# Altium footprint library TerminalBlock_Phoenix.PcbLib: 114 footprints (part 5 of 8)
Each footprint in its own frame and in the unit in brackets; x right, y up, seen from the top. Pads: shape width x height; smd on the part's side, far side on the other; paste and mask are expansions set on the pad; w line width, h text height; cw(c..) or ccw(c..) is an arc to the next point about the centre after c.
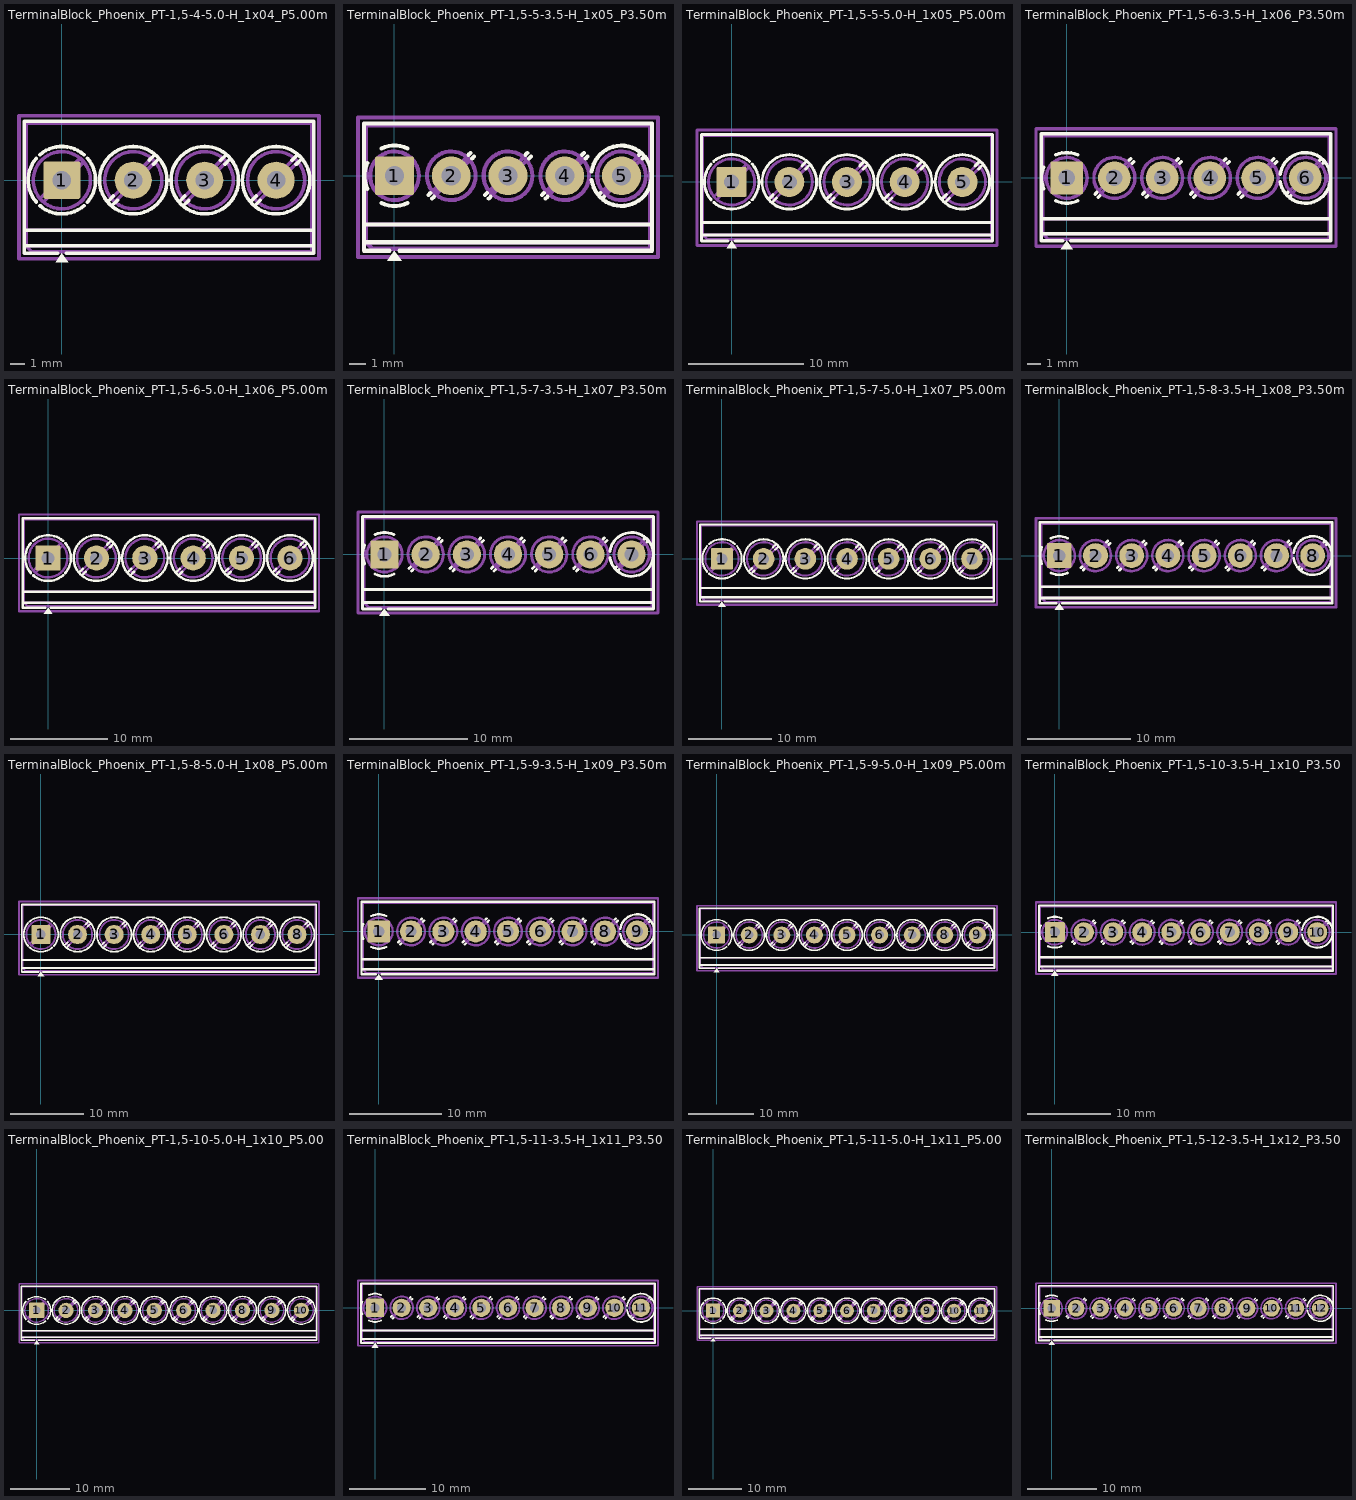
[diagram p4: the footprints below, top view; thin cyan lines are the x and y axes]

## TerminalBlock_Phoenix_PT-1,5-4-5.0-H_1x04_P5.00mm_Horizontal [mm]
pads (4):
  rrect10% 2.6x2.6 hole 1.3: 1(0,0)
  round 2.6 hole 1.3: 2(5,0) 3(10,0) 4(15,0)
F.SilkS:
  circle w0.254: c5,0 r2.36
  circle w0.254: c10,0 r2.36
  circle w0.254: c15,0 r2.36
  region: 0.44,-5.73 -0.44,-5.73 0,-5.12
  lines w0.254: -2.62,-4.6 17.62,-4.6 ; -2.62,-3.5 17.62,-3.5 ; -1.79,-1.502 -1.78,-1.491 ; -1.78,-1.55 cw(c0,0) -1.78,1.55 ; -1.55,-1.78 ccw(c0,0) 1.55,-1.78 ; -1.55,1.78 cw(c0,0) 1.55,1.78 ; -1.502,-1.79 -1.493,-1.78 ; -0.3,-5.12 -2.62,-5.12 -2.62,4.12 17.62,4.12 17.62,-5.12 0.3,-5.12 ; 1.78,-1.55 ccw(c0,0) 1.78,1.55 ; 3.21,-1.502 3.605,-1.106 ; 3.498,-1.79 3.893,-1.394 ; 6.106,1.394 6.502,1.79 ; 6.394,1.106 6.79,1.502 ; 8.21,-1.502 8.605,-1.106 ; 8.498,-1.79 8.893,-1.394 ; 11.106,1.394 11.502,1.79 ; 11.394,1.106 11.79,1.502 ; 13.21,-1.502 13.605,-1.106 ; 13.498,-1.79 13.893,-1.394 ; 16.106,1.394 16.502,1.79 ; 16.394,1.106 16.79,1.502
F.CrtYd:
  lines w0.254: -3,-5.5 -3,4.5 18,4.5 18,-5.5 -3,-5.5
F.Fab:
  circle w0.254: c0,0 r2
  circle w0.254: c5,0 r2
  circle w0.254: c10,0 r2
  circle w0.254: c15,0 r2
  lines w0.254: -2.5,-3.5 17.5,-3.5 ; -1.517,-1.272 1.273,1.517 ; -1.273,-1.517 1.517,1.273 ; 3.483,-1.272 6.273,1.517 ; 3.727,-1.517 6.517,1.273 ; 8.483,-1.272 11.273,1.517 ; 8.727,-1.517 11.517,1.273 ; 13.483,-1.272 16.273,1.517 ; 13.727,-1.517 16.517,1.273 ; 17.5,-4.6 -2.5,-4.6 ; -2.5,-4.6 -2.5,4 17.5,4 17.5,-5 -2.1,-5 -2.5,-4.6
  text "'.Designator'" at 6.061,-3.298 h1

## TerminalBlock_Phoenix_PT-1,5-5-3.5-H_1x05_P3.50mm_Horizontal [mm]
pads (5):
  rrect10% 2.4x2.4 hole 1.2: 1(0,0)
  round 2.4 hole 1.2: 2(3.5,0) 3(7,0) 4(10.5,0) 5(14,0)
F.SilkS:
  region: 0.44,-5.23 -0.44,-5.23 0,-4.62
  lines w0.254: -1.87,-4.1 15.87,-4.1 ; -1.87,-3 15.87,-3 ; -1.68,-0.798 cw(c0,0) -1.68,0.798 ; -0.798,-1.68 ccw(c0,0) 0.798,-1.68 ; -0.798,1.68 cw(c0,0) 0.798,1.68 ; -0.3,-4.62 -1.87,-4.62 -1.87,3.22 15.87,3.22 15.87,-4.62 0.3,-4.62 ; 2.089,-1.183 2.204,-1.069 ; 2.316,-1.41 2.431,-1.296 ; 4.569,1.296 4.684,1.411 ; 4.796,1.069 4.911,1.184 ; 5.589,-1.183 5.704,-1.069 ; 5.816,-1.41 5.931,-1.296 ; 8.069,1.296 8.184,1.411 ; 8.296,1.069 8.411,1.184 ; 9.089,-1.183 9.204,-1.069 ; 9.316,-1.41 9.431,-1.296 ; 11.569,1.296 11.684,1.411 ; 11.796,1.069 11.911,1.184 ; 12.159,-0.265 ccw(c14,0) 12.159,0.265 ; 12.589,-1.183 12.704,-1.069 ; 12.816,-1.41 12.931,-1.296 ; 15.069,1.296 15.184,1.411 ; 15.296,1.069 15.411,1.184
F.CrtYd:
  lines w0.254: -2.25,-5 -2.25,3.6 16.25,3.6 16.25,-5 -2.25,-5
F.Fab:
  circle w0.254: c0,0 r1.5
  circle w0.254: c3.5,0 r1.5
  circle w0.254: c7,0 r1.5
  circle w0.254: c10.5,0 r1.5
  circle w0.254: c14,0 r1.5
  lines w0.254: -1.75,-3 15.75,-3 ; -1.138,-0.954 0.955,1.138 ; -0.955,-1.137 1.138,0.954 ; 2.362,-0.954 4.455,1.138 ; 2.545,-1.137 4.638,0.954 ; 5.862,-0.954 7.955,1.138 ; 6.045,-1.137 8.138,0.954 ; 9.362,-0.954 11.455,1.138 ; 9.545,-1.137 11.638,0.954 ; 12.862,-0.954 14.955,1.138 ; 13.045,-1.137 15.138,0.954 ; 15.75,-4.1 -1.75,-4.1 ; -1.75,-4.1 -1.75,3.1 15.75,3.1 15.75,-4.5 -1.35,-4.5 -1.75,-4.1
  text "'.Designator'" at 5.561,-2.798 h1

## TerminalBlock_Phoenix_PT-1,5-5-5.0-H_1x05_P5.00mm_Horizontal [mm]
pads (5):
  rrect10% 2.6x2.6 hole 1.3: 1(0,0)
  round 2.6 hole 1.3: 2(5,0) 3(10,0) 4(15,0) 5(20,0)
F.SilkS:
  circle w0.254: c5,0 r2.36
  circle w0.254: c10,0 r2.36
  circle w0.254: c15,0 r2.36
  circle w0.254: c20,0 r2.36
  region: 0.44,-5.73 -0.44,-5.73 0,-5.12
  lines w0.254: -2.62,-4.6 22.62,-4.6 ; -2.62,-3.5 22.62,-3.5 ; -1.79,-1.502 -1.78,-1.491 ; -1.78,-1.55 cw(c0,0) -1.78,1.55 ; -1.55,-1.78 ccw(c0,0) 1.55,-1.78 ; -1.55,1.78 cw(c0,0) 1.55,1.78 ; -1.502,-1.79 -1.493,-1.78 ; -0.3,-5.12 -2.62,-5.12 -2.62,4.12 22.62,4.12 22.62,-5.12 0.3,-5.12 ; 1.78,-1.55 ccw(c0,0) 1.78,1.55 ; 3.21,-1.502 3.605,-1.106 ; 3.498,-1.79 3.893,-1.394 ; 6.106,1.394 6.502,1.79 ; 6.394,1.106 6.79,1.502 ; 8.21,-1.502 8.605,-1.106 ; 8.498,-1.79 8.893,-1.394 ; 11.106,1.394 11.502,1.79 ; 11.394,1.106 11.79,1.502 ; 13.21,-1.502 13.605,-1.106 ; 13.498,-1.79 13.893,-1.394 ; 16.106,1.394 16.502,1.79 ; 16.394,1.106 16.79,1.502 ; 18.21,-1.502 18.605,-1.106 ; 18.498,-1.79 18.893,-1.394 ; 21.106,1.394 21.502,1.79 ; 21.394,1.106 21.79,1.502
F.CrtYd:
  lines w0.254: -3,-5.5 -3,4.5 23,4.5 23,-5.5 -3,-5.5
F.Fab:
  circle w0.254: c0,0 r2
  circle w0.254: c5,0 r2
  circle w0.254: c10,0 r2
  circle w0.254: c15,0 r2
  circle w0.254: c20,0 r2
  lines w0.254: -2.5,-3.5 22.5,-3.5 ; -1.517,-1.272 1.273,1.517 ; -1.273,-1.517 1.517,1.273 ; 3.483,-1.272 6.273,1.517 ; 3.727,-1.517 6.517,1.273 ; 8.483,-1.272 11.273,1.517 ; 8.727,-1.517 11.517,1.273 ; 13.483,-1.272 16.273,1.517 ; 13.727,-1.517 16.517,1.273 ; 18.483,-1.272 21.273,1.517 ; 18.727,-1.517 21.517,1.273 ; 22.5,-4.6 -2.5,-4.6 ; -2.5,-4.6 -2.5,4 22.5,4 22.5,-5 -2.1,-5 -2.5,-4.6
  text "'.Designator'" at 8.561,-3.298 h1

## TerminalBlock_Phoenix_PT-1,5-6-3.5-H_1x06_P3.50mm_Horizontal [mm]
pads (6):
  rrect10% 2.4x2.4 hole 1.2: 1(0,0)
  round 2.4 hole 1.2: 2(3.5,0) 3(7,0) 4(10.5,0) 5(14,0) 6(17.5,0)
F.SilkS:
  region: 0.44,-5.23 -0.44,-5.23 0,-4.62
  lines w0.254: -1.87,-4.1 19.37,-4.1 ; -1.87,-3 19.37,-3 ; -1.68,-0.798 cw(c0,0) -1.68,0.798 ; -0.798,-1.68 ccw(c0,0) 0.798,-1.68 ; -0.798,1.68 cw(c0,0) 0.798,1.68 ; -0.3,-4.62 -1.87,-4.62 -1.87,3.22 19.37,3.22 19.37,-4.62 0.3,-4.62 ; 2.089,-1.183 2.204,-1.069 ; 2.316,-1.41 2.431,-1.296 ; 4.569,1.296 4.684,1.411 ; 4.796,1.069 4.911,1.184 ; 5.589,-1.183 5.704,-1.069 ; 5.816,-1.41 5.931,-1.296 ; 8.069,1.296 8.184,1.411 ; 8.296,1.069 8.411,1.184 ; 9.089,-1.183 9.204,-1.069 ; 9.316,-1.41 9.431,-1.296 ; 11.569,1.296 11.684,1.411 ; 11.796,1.069 11.911,1.184 ; 12.589,-1.183 12.704,-1.069 ; 12.816,-1.41 12.931,-1.296 ; 15.069,1.296 15.184,1.411 ; 15.296,1.069 15.411,1.184 ; 15.659,-0.265 ccw(c17.5,0) 15.659,0.265 ; 16.089,-1.183 16.204,-1.069 ; 16.316,-1.41 16.431,-1.296 ; 18.569,1.296 18.684,1.411 ; 18.796,1.069 18.911,1.184
F.CrtYd:
  lines w0.254: -2.25,-5 -2.25,3.6 19.75,3.6 19.75,-5 -2.25,-5
F.Fab:
  circle w0.254: c0,0 r1.5
  circle w0.254: c3.5,0 r1.5
  circle w0.254: c7,0 r1.5
  circle w0.254: c10.5,0 r1.5
  circle w0.254: c14,0 r1.5
  circle w0.254: c17.5,0 r1.5
  lines w0.254: -1.75,-3 19.25,-3 ; -1.138,-0.954 0.955,1.138 ; -0.955,-1.137 1.138,0.954 ; 2.362,-0.954 4.455,1.138 ; 2.545,-1.137 4.638,0.954 ; 5.862,-0.954 7.955,1.138 ; 6.045,-1.137 8.138,0.954 ; 9.362,-0.954 11.455,1.138 ; 9.545,-1.137 11.638,0.954 ; 12.862,-0.954 14.955,1.138 ; 13.045,-1.137 15.138,0.954 ; 16.362,-0.954 18.455,1.138 ; 16.545,-1.137 18.638,0.954 ; 19.25,-4.1 -1.75,-4.1 ; -1.75,-4.1 -1.75,3.1 19.25,3.1 19.25,-4.5 -1.35,-4.5 -1.75,-4.1
  text "'.Designator'" at 7.311,-2.798 h1

## TerminalBlock_Phoenix_PT-1,5-6-5.0-H_1x06_P5.00mm_Horizontal [mm]
pads (6):
  rrect10% 2.6x2.6 hole 1.3: 1(0,0)
  round 2.6 hole 1.3: 2(5,0) 3(10,0) 4(15,0) 5(20,0) 6(25,0)
F.SilkS:
  circle w0.254: c5,0 r2.36
  circle w0.254: c10,0 r2.36
  circle w0.254: c15,0 r2.36
  circle w0.254: c20,0 r2.36
  circle w0.254: c25,0 r2.36
  region: 0.44,-5.73 -0.44,-5.73 0,-5.12
  lines w0.254: -2.62,-4.6 27.62,-4.6 ; -2.62,-3.5 27.62,-3.5 ; -1.79,-1.502 -1.78,-1.491 ; -1.78,-1.55 cw(c0,0) -1.78,1.55 ; -1.55,-1.78 ccw(c0,0) 1.55,-1.78 ; -1.55,1.78 cw(c0,0) 1.55,1.78 ; -1.502,-1.79 -1.493,-1.78 ; -0.3,-5.12 -2.62,-5.12 -2.62,4.12 27.62,4.12 27.62,-5.12 0.3,-5.12 ; 1.78,-1.55 ccw(c0,0) 1.78,1.55 ; 3.21,-1.502 3.605,-1.106 ; 3.498,-1.79 3.893,-1.394 ; 6.106,1.394 6.502,1.79 ; 6.394,1.106 6.79,1.502 ; 8.21,-1.502 8.605,-1.106 ; 8.498,-1.79 8.893,-1.394 ; 11.106,1.394 11.502,1.79 ; 11.394,1.106 11.79,1.502 ; 13.21,-1.502 13.605,-1.106 ; 13.498,-1.79 13.893,-1.394 ; 16.106,1.394 16.502,1.79 ; 16.394,1.106 16.79,1.502 ; 18.21,-1.502 18.605,-1.106 ; 18.498,-1.79 18.893,-1.394 ; 21.106,1.394 21.502,1.79 ; 21.394,1.106 21.79,1.502 ; 23.21,-1.502 23.605,-1.106 ; 23.498,-1.79 23.893,-1.394 ; 26.106,1.394 26.502,1.79 ; 26.394,1.106 26.79,1.502
F.CrtYd:
  lines w0.254: -3,-5.5 -3,4.5 28,4.5 28,-5.5 -3,-5.5
F.Fab:
  circle w0.254: c0,0 r2
  circle w0.254: c5,0 r2
  circle w0.254: c10,0 r2
  circle w0.254: c15,0 r2
  circle w0.254: c20,0 r2
  circle w0.254: c25,0 r2
  lines w0.254: -2.5,-3.5 27.5,-3.5 ; -1.517,-1.272 1.273,1.517 ; -1.273,-1.517 1.517,1.273 ; 3.483,-1.272 6.273,1.517 ; 3.727,-1.517 6.517,1.273 ; 8.483,-1.272 11.273,1.517 ; 8.727,-1.517 11.517,1.273 ; 13.483,-1.272 16.273,1.517 ; 13.727,-1.517 16.517,1.273 ; 18.483,-1.272 21.273,1.517 ; 18.727,-1.517 21.517,1.273 ; 23.483,-1.272 26.273,1.517 ; 23.727,-1.517 26.517,1.273 ; 27.5,-4.6 -2.5,-4.6 ; -2.5,-4.6 -2.5,4 27.5,4 27.5,-5 -2.1,-5 -2.5,-4.6
  text "'.Designator'" at 11.061,-3.298 h1

## TerminalBlock_Phoenix_PT-1,5-7-3.5-H_1x07_P3.50mm_Horizontal [mm]
pads (7):
  rrect10% 2.4x2.4 hole 1.2: 1(0,0)
  round 2.4 hole 1.2: 2(3.5,0) 3(7,0) 4(10.5,0) 5(14,0) 6(17.5,0) 7(21,0)
F.SilkS:
  region: 0.44,-5.23 -0.44,-5.23 0,-4.62
  lines w0.254: -1.87,-4.1 22.87,-4.1 ; -1.87,-3 22.87,-3 ; -1.68,-0.798 cw(c0,0) -1.68,0.798 ; -0.798,-1.68 ccw(c0,0) 0.798,-1.68 ; -0.798,1.68 cw(c0,0) 0.798,1.68 ; -0.3,-4.62 -1.87,-4.62 -1.87,3.22 22.87,3.22 22.87,-4.62 0.3,-4.62 ; 2.089,-1.183 2.204,-1.069 ; 2.316,-1.41 2.431,-1.296 ; 4.569,1.296 4.684,1.411 ; 4.796,1.069 4.911,1.184 ; 5.589,-1.183 5.704,-1.069 ; 5.816,-1.41 5.931,-1.296 ; 8.069,1.296 8.184,1.411 ; 8.296,1.069 8.411,1.184 ; 9.089,-1.183 9.204,-1.069 ; 9.316,-1.41 9.431,-1.296 ; 11.569,1.296 11.684,1.411 ; 11.796,1.069 11.911,1.184 ; 12.589,-1.183 12.704,-1.069 ; 12.816,-1.41 12.931,-1.296 ; 15.069,1.296 15.184,1.411 ; 15.296,1.069 15.411,1.184 ; 16.089,-1.183 16.204,-1.069 ; 16.316,-1.41 16.431,-1.296 ; 18.569,1.296 18.684,1.411 ; 18.796,1.069 18.911,1.184 ; 19.159,-0.265 ccw(c21,0) 19.159,0.265 ; 19.589,-1.183 19.704,-1.069 ; 19.816,-1.41 19.931,-1.296 ; 22.069,1.296 22.184,1.411 ; 22.296,1.069 22.411,1.184
F.CrtYd:
  lines w0.254: -2.25,-5 -2.25,3.6 23.25,3.6 23.25,-5 -2.25,-5
F.Fab:
  circle w0.254: c0,0 r1.5
  circle w0.254: c3.5,0 r1.5
  circle w0.254: c7,0 r1.5
  circle w0.254: c10.5,0 r1.5
  circle w0.254: c14,0 r1.5
  circle w0.254: c17.5,0 r1.5
  circle w0.254: c21,0 r1.5
  lines w0.254: -1.75,-3 22.75,-3 ; -1.138,-0.954 0.955,1.138 ; -0.955,-1.137 1.138,0.954 ; 2.362,-0.954 4.455,1.138 ; 2.545,-1.137 4.638,0.954 ; 5.862,-0.954 7.955,1.138 ; 6.045,-1.137 8.138,0.954 ; 9.362,-0.954 11.455,1.138 ; 9.545,-1.137 11.638,0.954 ; 12.862,-0.954 14.955,1.138 ; 13.045,-1.137 15.138,0.954 ; 16.362,-0.954 18.455,1.138 ; 16.545,-1.137 18.638,0.954 ; 19.862,-0.954 21.955,1.138 ; 20.045,-1.137 22.138,0.954 ; 22.75,-4.1 -1.75,-4.1 ; -1.75,-4.1 -1.75,3.1 22.75,3.1 22.75,-4.5 -1.35,-4.5 -1.75,-4.1
  text "'.Designator'" at 9.061,-2.798 h1

## TerminalBlock_Phoenix_PT-1,5-7-5.0-H_1x07_P5.00mm_Horizontal [mm]
pads (7):
  rrect10% 2.6x2.6 hole 1.3: 1(0,0)
  round 2.6 hole 1.3: 2(5,0) 3(10,0) 4(15,0) 5(20,0) 6(25,0) 7(30,0)
F.SilkS:
  circle w0.254: c5,0 r2.36
  circle w0.254: c10,0 r2.36
  circle w0.254: c15,0 r2.36
  circle w0.254: c20,0 r2.36
  circle w0.254: c25,0 r2.36
  circle w0.254: c30,0 r2.36
  region: 0.44,-5.73 -0.44,-5.73 0,-5.12
  lines w0.254: -2.62,-4.6 32.62,-4.6 ; -2.62,-3.5 32.62,-3.5 ; -1.79,-1.502 -1.78,-1.491 ; -1.78,-1.55 cw(c0,0) -1.78,1.55 ; -1.55,-1.78 ccw(c0,0) 1.55,-1.78 ; -1.55,1.78 cw(c0,0) 1.55,1.78 ; -1.502,-1.79 -1.493,-1.78 ; -0.3,-5.12 -2.62,-5.12 -2.62,4.12 32.62,4.12 32.62,-5.12 0.3,-5.12 ; 1.78,-1.55 ccw(c0,0) 1.78,1.55 ; 3.21,-1.502 3.605,-1.106 ; 3.498,-1.79 3.893,-1.394 ; 6.106,1.394 6.502,1.79 ; 6.394,1.106 6.79,1.502 ; 8.21,-1.502 8.605,-1.106 ; 8.498,-1.79 8.893,-1.394 ; 11.106,1.394 11.502,1.79 ; 11.394,1.106 11.79,1.502 ; 13.21,-1.502 13.605,-1.106 ; 13.498,-1.79 13.893,-1.394 ; 16.106,1.394 16.502,1.79 ; 16.394,1.106 16.79,1.502 ; 18.21,-1.502 18.605,-1.106 ; 18.498,-1.79 18.893,-1.394 ; 21.106,1.394 21.502,1.79 ; 21.394,1.106 21.79,1.502 ; 23.21,-1.502 23.605,-1.106 ; 23.498,-1.79 23.893,-1.394 ; 26.106,1.394 26.502,1.79 ; 26.394,1.106 26.79,1.502 ; 28.21,-1.502 28.605,-1.106 ; 28.498,-1.79 28.893,-1.394 ; 31.106,1.394 31.502,1.79 ; 31.394,1.106 31.79,1.502
F.CrtYd:
  lines w0.254: -3,-5.5 -3,4.5 33,4.5 33,-5.5 -3,-5.5
F.Fab:
  circle w0.254: c0,0 r2
  circle w0.254: c5,0 r2
  circle w0.254: c10,0 r2
  circle w0.254: c15,0 r2
  circle w0.254: c20,0 r2
  circle w0.254: c25,0 r2
  circle w0.254: c30,0 r2
  lines w0.254: -2.5,-3.5 32.5,-3.5 ; -1.517,-1.272 1.273,1.517 ; -1.273,-1.517 1.517,1.273 ; 3.483,-1.272 6.273,1.517 ; 3.727,-1.517 6.517,1.273 ; 8.483,-1.272 11.273,1.517 ; 8.727,-1.517 11.517,1.273 ; 13.483,-1.272 16.273,1.517 ; 13.727,-1.517 16.517,1.273 ; 18.483,-1.272 21.273,1.517 ; 18.727,-1.517 21.517,1.273 ; 23.483,-1.272 26.273,1.517 ; 23.727,-1.517 26.517,1.273 ; 28.483,-1.272 31.273,1.517 ; 28.727,-1.517 31.517,1.273 ; 32.5,-4.6 -2.5,-4.6 ; -2.5,-4.6 -2.5,4 32.5,4 32.5,-5 -2.1,-5 -2.5,-4.6
  text "'.Designator'" at 13.561,-3.298 h1

## TerminalBlock_Phoenix_PT-1,5-8-3.5-H_1x08_P3.50mm_Horizontal [mm]
pads (8):
  rrect10% 2.4x2.4 hole 1.2: 1(0,0)
  round 2.4 hole 1.2: 2(3.5,0) 3(7,0) 4(10.5,0) 5(14,0) 6(17.5,0) 7(21,0) 8(24.5,0)
F.SilkS:
  region: 0.44,-5.23 -0.44,-5.23 0,-4.62
  lines w0.254: -1.87,-4.1 26.37,-4.1 ; -1.87,-3 26.37,-3 ; -1.68,-0.798 cw(c0,0) -1.68,0.798 ; -0.798,-1.68 ccw(c0,0) 0.798,-1.68 ; -0.798,1.68 cw(c0,0) 0.798,1.68 ; -0.3,-4.62 -1.87,-4.62 -1.87,3.22 26.37,3.22 26.37,-4.62 0.3,-4.62 ; 2.089,-1.183 2.204,-1.069 ; 2.316,-1.41 2.431,-1.296 ; 4.569,1.296 4.684,1.411 ; 4.796,1.069 4.911,1.184 ; 5.589,-1.183 5.704,-1.069 ; 5.816,-1.41 5.931,-1.296 ; 8.069,1.296 8.184,1.411 ; 8.296,1.069 8.411,1.184 ; 9.089,-1.183 9.204,-1.069 ; 9.316,-1.41 9.431,-1.296 ; 11.569,1.296 11.684,1.411 ; 11.796,1.069 11.911,1.184 ; 12.589,-1.183 12.704,-1.069 ; 12.816,-1.41 12.931,-1.296 ; 15.069,1.296 15.184,1.411 ; 15.296,1.069 15.411,1.184 ; 16.089,-1.183 16.204,-1.069 ; 16.316,-1.41 16.431,-1.296 ; 18.569,1.296 18.684,1.411 ; 18.796,1.069 18.911,1.184 ; 19.589,-1.183 19.704,-1.069 ; 19.816,-1.41 19.931,-1.296 ; 22.069,1.296 22.184,1.411 ; 22.296,1.069 22.411,1.184 ; 22.659,-0.265 ccw(c24.5,0) 22.659,0.265 ; 23.089,-1.183 23.204,-1.069 ; 23.316,-1.41 23.431,-1.296 ; 25.569,1.296 25.684,1.411 ; 25.796,1.069 25.911,1.184
F.CrtYd:
  lines w0.254: -2.25,-5 -2.25,3.6 26.75,3.6 26.75,-5 -2.25,-5
F.Fab:
  circle w0.254: c0,0 r1.5
  circle w0.254: c3.5,0 r1.5
  circle w0.254: c7,0 r1.5
  circle w0.254: c10.5,0 r1.5
  circle w0.254: c14,0 r1.5
  circle w0.254: c17.5,0 r1.5
  circle w0.254: c21,0 r1.5
  circle w0.254: c24.5,0 r1.5
  lines w0.254: -1.75,-3 26.25,-3 ; -1.138,-0.954 0.955,1.138 ; -0.955,-1.137 1.138,0.954 ; 2.362,-0.954 4.455,1.138 ; 2.545,-1.137 4.638,0.954 ; 5.862,-0.954 7.955,1.138 ; 6.045,-1.137 8.138,0.954 ; 9.362,-0.954 11.455,1.138 ; 9.545,-1.137 11.638,0.954 ; 12.862,-0.954 14.955,1.138 ; 13.045,-1.137 15.138,0.954 ; 16.362,-0.954 18.455,1.138 ; 16.545,-1.137 18.638,0.954 ; 19.862,-0.954 21.955,1.138 ; 20.045,-1.137 22.138,0.954 ; 23.362,-0.954 25.455,1.138 ; 23.545,-1.137 25.638,0.954 ; 26.25,-4.1 -1.75,-4.1 ; -1.75,-4.1 -1.75,3.1 26.25,3.1 26.25,-4.5 -1.35,-4.5 -1.75,-4.1
  text "'.Designator'" at 10.811,-2.798 h1

## TerminalBlock_Phoenix_PT-1,5-8-5.0-H_1x08_P5.00mm_Horizontal [mm]
pads (8):
  rrect10% 2.6x2.6 hole 1.3: 1(0,0)
  round 2.6 hole 1.3: 2(5,0) 3(10,0) 4(15,0) 5(20,0) 6(25,0) 7(30,0) 8(35,0)
F.SilkS:
  circle w0.254: c5,0 r2.36
  circle w0.254: c10,0 r2.36
  circle w0.254: c15,0 r2.36
  circle w0.254: c20,0 r2.36
  circle w0.254: c25,0 r2.36
  circle w0.254: c30,0 r2.36
  circle w0.254: c35,0 r2.36
  region: 0.44,-5.73 -0.44,-5.73 0,-5.12
  lines w0.254: -2.62,-4.6 37.62,-4.6 ; -2.62,-3.5 37.62,-3.5 ; -1.79,-1.502 -1.78,-1.491 ; -1.78,-1.55 cw(c0,0) -1.78,1.55 ; -1.55,-1.78 ccw(c0,0) 1.55,-1.78 ; -1.55,1.78 cw(c0,0) 1.55,1.78 ; -1.502,-1.79 -1.493,-1.78 ; -0.3,-5.12 -2.62,-5.12 -2.62,4.12 37.62,4.12 37.62,-5.12 0.3,-5.12 ; 1.78,-1.55 ccw(c0,0) 1.78,1.55 ; 3.21,-1.502 3.605,-1.106 ; 3.498,-1.79 3.893,-1.394 ; 6.106,1.394 6.502,1.79 ; 6.394,1.106 6.79,1.502 ; 8.21,-1.502 8.605,-1.106 ; 8.498,-1.79 8.893,-1.394 ; 11.106,1.394 11.502,1.79 ; 11.394,1.106 11.79,1.502 ; 13.21,-1.502 13.605,-1.106 ; 13.498,-1.79 13.893,-1.394 ; 16.106,1.394 16.502,1.79 ; 16.394,1.106 16.79,1.502 ; 18.21,-1.502 18.605,-1.106 ; 18.498,-1.79 18.893,-1.394 ; 21.106,1.394 21.502,1.79 ; 21.394,1.106 21.79,1.502 ; 23.21,-1.502 23.605,-1.106 ; 23.498,-1.79 23.893,-1.394 ; 26.106,1.394 26.502,1.79 ; 26.394,1.106 26.79,1.502 ; 28.21,-1.502 28.605,-1.106 ; 28.498,-1.79 28.893,-1.394 ; 31.106,1.394 31.502,1.79 ; 31.394,1.106 31.79,1.502 ; 33.21,-1.502 33.605,-1.106 ; 33.498,-1.79 33.893,-1.394 ; 36.106,1.394 36.502,1.79 ; 36.394,1.106 36.79,1.502
F.CrtYd:
  lines w0.254: -3,-5.5 -3,4.5 38,4.5 38,-5.5 -3,-5.5
F.Fab:
  circle w0.254: c0,0 r2
  circle w0.254: c5,0 r2
  circle w0.254: c10,0 r2
  circle w0.254: c15,0 r2
  circle w0.254: c20,0 r2
  circle w0.254: c25,0 r2
  circle w0.254: c30,0 r2
  circle w0.254: c35,0 r2
  lines w0.254: -2.5,-3.5 37.5,-3.5 ; -1.517,-1.272 1.273,1.517 ; -1.273,-1.517 1.517,1.273 ; 3.483,-1.272 6.273,1.517 ; 3.727,-1.517 6.517,1.273 ; 8.483,-1.272 11.273,1.517 ; 8.727,-1.517 11.517,1.273 ; 13.483,-1.272 16.273,1.517 ; 13.727,-1.517 16.517,1.273 ; 18.483,-1.272 21.273,1.517 ; 18.727,-1.517 21.517,1.273 ; 23.483,-1.272 26.273,1.517 ; 23.727,-1.517 26.517,1.273 ; 28.483,-1.272 31.273,1.517 ; 28.727,-1.517 31.517,1.273 ; 33.483,-1.272 36.273,1.517 ; 33.727,-1.517 36.517,1.273 ; 37.5,-4.6 -2.5,-4.6 ; -2.5,-4.6 -2.5,4 37.5,4 37.5,-5 -2.1,-5 -2.5,-4.6
  text "'.Designator'" at 16.061,-3.298 h1

## TerminalBlock_Phoenix_PT-1,5-9-3.5-H_1x09_P3.50mm_Horizontal [mm]
pads (9):
  rrect10% 2.4x2.4 hole 1.2: 1(0,0)
  round 2.4 hole 1.2: 2(3.5,0) 3(7,0) 4(10.5,0) 5(14,0) 6(17.5,0) 7(21,0) 8(24.5,0) 9(28,0)
F.SilkS:
  region: 0.44,-5.23 -0.44,-5.23 0,-4.62
  lines w0.254: -1.87,-4.1 29.87,-4.1 ; -1.87,-3 29.87,-3 ; -1.68,-0.798 cw(c0,0) -1.68,0.798 ; -0.798,-1.68 ccw(c0,0) 0.798,-1.68 ; -0.798,1.68 cw(c0,0) 0.798,1.68 ; -0.3,-4.62 -1.87,-4.62 -1.87,3.22 29.87,3.22 29.87,-4.62 0.3,-4.62 ; 2.089,-1.183 2.204,-1.069 ; 2.316,-1.41 2.431,-1.296 ; 4.569,1.296 4.684,1.411 ; 4.796,1.069 4.911,1.184 ; 5.589,-1.183 5.704,-1.069 ; 5.816,-1.41 5.931,-1.296 ; 8.069,1.296 8.184,1.411 ; 8.296,1.069 8.411,1.184 ; 9.089,-1.183 9.204,-1.069 ; 9.316,-1.41 9.431,-1.296 ; 11.569,1.296 11.684,1.411 ; 11.796,1.069 11.911,1.184 ; 12.589,-1.183 12.704,-1.069 ; 12.816,-1.41 12.931,-1.296 ; 15.069,1.296 15.184,1.411 ; 15.296,1.069 15.411,1.184 ; 16.089,-1.183 16.204,-1.069 ; 16.316,-1.41 16.431,-1.296 ; 18.569,1.296 18.684,1.411 ; 18.796,1.069 18.911,1.184 ; 19.589,-1.183 19.704,-1.069 ; 19.816,-1.41 19.931,-1.296 ; 22.069,1.296 22.184,1.411 ; 22.296,1.069 22.411,1.184 ; 23.089,-1.183 23.204,-1.069 ; 23.316,-1.41 23.431,-1.296 ; 25.569,1.296 25.684,1.411 ; 25.796,1.069 25.911,1.184 ; 26.159,-0.265 ccw(c28,0) 26.159,0.265 ; 26.589,-1.183 26.704,-1.069 ; 26.816,-1.41 26.931,-1.296 ; 29.069,1.296 29.184,1.411 ; 29.296,1.069 29.411,1.184
F.CrtYd:
  lines w0.254: -2.25,-5 -2.25,3.6 30.25,3.6 30.25,-5 -2.25,-5
F.Fab:
  circle w0.254: c0,0 r1.5
  circle w0.254: c3.5,0 r1.5
  circle w0.254: c7,0 r1.5
  circle w0.254: c10.5,0 r1.5
  circle w0.254: c14,0 r1.5
  circle w0.254: c17.5,0 r1.5
  circle w0.254: c21,0 r1.5
  circle w0.254: c24.5,0 r1.5
  circle w0.254: c28,0 r1.5
  lines w0.254: -1.75,-3 29.75,-3 ; -1.138,-0.954 0.955,1.138 ; -0.955,-1.137 1.138,0.954 ; 2.362,-0.954 4.455,1.138 ; 2.545,-1.137 4.638,0.954 ; 5.862,-0.954 7.955,1.138 ; 6.045,-1.137 8.138,0.954 ; 9.362,-0.954 11.455,1.138 ; 9.545,-1.137 11.638,0.954 ; 12.862,-0.954 14.955,1.138 ; 13.045,-1.137 15.138,0.954 ; 16.362,-0.954 18.455,1.138 ; 16.545,-1.137 18.638,0.954 ; 19.862,-0.954 21.955,1.138 ; 20.045,-1.137 22.138,0.954 ; 23.362,-0.954 25.455,1.138 ; 23.545,-1.137 25.638,0.954 ; 26.862,-0.954 28.955,1.138 ; 27.045,-1.137 29.138,0.954 ; 29.75,-4.1 -1.75,-4.1 ; -1.75,-4.1 -1.75,3.1 29.75,3.1 29.75,-4.5 -1.35,-4.5 -1.75,-4.1
  text "'.Designator'" at 12.561,-2.798 h1

## TerminalBlock_Phoenix_PT-1,5-9-5.0-H_1x09_P5.00mm_Horizontal [mm]
pads (9):
  rrect10% 2.6x2.6 hole 1.3: 1(0,0)
  round 2.6 hole 1.3: 2(5,0) 3(10,0) 4(15,0) 5(20,0) 6(25,0) 7(30,0) 8(35,0) 9(40,0)
F.SilkS:
  circle w0.254: c5,0 r2.36
  circle w0.254: c10,0 r2.36
  circle w0.254: c15,0 r2.36
  circle w0.254: c20,0 r2.36
  circle w0.254: c25,0 r2.36
  circle w0.254: c30,0 r2.36
  circle w0.254: c35,0 r2.36
  circle w0.254: c40,0 r2.36
  region: 0.44,-5.73 -0.44,-5.73 0,-5.12
  lines w0.254: -2.62,-4.6 42.62,-4.6 ; -2.62,-3.5 42.62,-3.5 ; -1.79,-1.502 -1.78,-1.491 ; -1.78,-1.55 cw(c0,0) -1.78,1.55 ; -1.55,-1.78 ccw(c0,0) 1.55,-1.78 ; -1.55,1.78 cw(c0,0) 1.55,1.78 ; -1.502,-1.79 -1.493,-1.78 ; -0.3,-5.12 -2.62,-5.12 -2.62,4.12 42.62,4.12 42.62,-5.12 0.3,-5.12 ; 1.78,-1.55 ccw(c0,0) 1.78,1.55 ; 3.21,-1.502 3.605,-1.106 ; 3.498,-1.79 3.893,-1.394 ; 6.106,1.394 6.502,1.79 ; 6.394,1.106 6.79,1.502 ; 8.21,-1.502 8.605,-1.106 ; 8.498,-1.79 8.893,-1.394 ; 11.106,1.394 11.502,1.79 ; 11.394,1.106 11.79,1.502 ; 13.21,-1.502 13.605,-1.106 ; 13.498,-1.79 13.893,-1.394 ; 16.106,1.394 16.502,1.79 ; 16.394,1.106 16.79,1.502 ; 18.21,-1.502 18.605,-1.106 ; 18.498,-1.79 18.893,-1.394 ; 21.106,1.394 21.502,1.79 ; 21.394,1.106 21.79,1.502 ; 23.21,-1.502 23.605,-1.106 ; 23.498,-1.79 23.893,-1.394 ; 26.106,1.394 26.502,1.79 ; 26.394,1.106 26.79,1.502 ; 28.21,-1.502 28.605,-1.106 ; 28.498,-1.79 28.893,-1.394 ; 31.106,1.394 31.502,1.79 ; 31.394,1.106 31.79,1.502 ; 33.21,-1.502 33.605,-1.106 ; 33.498,-1.79 33.893,-1.394 ; 36.106,1.394 36.502,1.79 ; 36.394,1.106 36.79,1.502 ; 38.21,-1.502 38.605,-1.106 ; 38.498,-1.79 38.893,-1.394 ; 41.106,1.394 41.502,1.79 ; 41.394,1.106 41.79,1.502
F.CrtYd:
  lines w0.254: -3,-5.5 -3,4.5 43,4.5 43,-5.5 -3,-5.5
F.Fab:
  circle w0.254: c0,0 r2
  circle w0.254: c5,0 r2
  circle w0.254: c10,0 r2
  circle w0.254: c15,0 r2
  circle w0.254: c20,0 r2
  circle w0.254: c25,0 r2
  circle w0.254: c30,0 r2
  circle w0.254: c35,0 r2
  circle w0.254: c40,0 r2
  lines w0.254: -2.5,-3.5 42.5,-3.5 ; -1.517,-1.272 1.273,1.517 ; -1.273,-1.517 1.517,1.273 ; 3.483,-1.272 6.273,1.517 ; 3.727,-1.517 6.517,1.273 ; 8.483,-1.272 11.273,1.517 ; 8.727,-1.517 11.517,1.273 ; 13.483,-1.272 16.273,1.517 ; 13.727,-1.517 16.517,1.273 ; 18.483,-1.272 21.273,1.517 ; 18.727,-1.517 21.517,1.273 ; 23.483,-1.272 26.273,1.517 ; 23.727,-1.517 26.517,1.273 ; 28.483,-1.272 31.273,1.517 ; 28.727,-1.517 31.517,1.273 ; 33.483,-1.272 36.273,1.517 ; 33.727,-1.517 36.517,1.273 ; 38.483,-1.272 41.273,1.517 ; 38.727,-1.517 41.517,1.273 ; 42.5,-4.6 -2.5,-4.6 ; -2.5,-4.6 -2.5,4 42.5,4 42.5,-5 -2.1,-5 -2.5,-4.6
  text "'.Designator'" at 18.561,-3.298 h1

## TerminalBlock_Phoenix_PT-1,5-10-3.5-H_1x10_P3.50mm_Horizontal [mm]
pads (10):
  rrect10% 2.4x2.4 hole 1.2: 1(0,0)
  round 2.4 hole 1.2: 2(3.5,0) 3(7,0) 4(10.5,0) 5(14,0) 6(17.5,0) 7(21,0) 8(24.5,0) 9(28,0) 10(31.5,0)
F.SilkS:
  region: 0.44,-5.23 -0.44,-5.23 0,-4.62
  lines w0.254: -1.87,-4.1 33.37,-4.1 ; -1.87,-3 33.37,-3 ; -1.68,-0.798 cw(c0,0) -1.68,0.798 ; -0.798,-1.68 ccw(c0,0) 0.798,-1.68 ; -0.798,1.68 cw(c0,0) 0.798,1.68 ; -0.3,-4.62 -1.87,-4.62 -1.87,3.22 33.37,3.22 33.37,-4.62 0.3,-4.62 ; 2.089,-1.183 2.204,-1.069 ; 2.316,-1.41 2.431,-1.296 ; 4.569,1.296 4.684,1.411 ; 4.796,1.069 4.911,1.184 ; 5.589,-1.183 5.704,-1.069 ; 5.816,-1.41 5.931,-1.296 ; 8.069,1.296 8.184,1.411 ; 8.296,1.069 8.411,1.184 ; 9.089,-1.183 9.204,-1.069 ; 9.316,-1.41 9.431,-1.296 ; 11.569,1.296 11.684,1.411 ; 11.796,1.069 11.911,1.184 ; 12.589,-1.183 12.704,-1.069 ; 12.816,-1.41 12.931,-1.296 ; 15.069,1.296 15.184,1.411 ; 15.296,1.069 15.411,1.184 ; 16.089,-1.183 16.204,-1.069 ; 16.316,-1.41 16.431,-1.296 ; 18.569,1.296 18.684,1.411 ; 18.796,1.069 18.911,1.184 ; 19.589,-1.183 19.704,-1.069 ; 19.816,-1.41 19.931,-1.296 ; 22.069,1.296 22.184,1.411 ; 22.296,1.069 22.411,1.184 ; 23.089,-1.183 23.204,-1.069 ; 23.316,-1.41 23.431,-1.296 ; 25.569,1.296 25.684,1.411 ; 25.796,1.069 25.911,1.184 ; 26.589,-1.183 26.704,-1.069 ; 26.816,-1.41 26.931,-1.296 ; 29.069,1.296 29.184,1.411 ; 29.296,1.069 29.411,1.184 ; 29.659,-0.265 ccw(c31.5,0) 29.659,0.265 ; 30.089,-1.183 30.204,-1.069 ; 30.316,-1.41 30.431,-1.296 ; 32.569,1.296 32.684,1.411 ; 32.796,1.069 32.911,1.184
F.CrtYd:
  lines w0.254: -2.25,-5 -2.25,3.6 33.75,3.6 33.75,-5 -2.25,-5
F.Fab:
  circle w0.254: c0,0 r1.5
  circle w0.254: c3.5,0 r1.5
  circle w0.254: c7,0 r1.5
  circle w0.254: c10.5,0 r1.5
  circle w0.254: c14,0 r1.5
  circle w0.254: c17.5,0 r1.5
  circle w0.254: c21,0 r1.5
  circle w0.254: c24.5,0 r1.5
  circle w0.254: c28,0 r1.5
  circle w0.254: c31.5,0 r1.5
  lines w0.254: -1.75,-3 33.25,-3 ; -1.138,-0.954 0.955,1.138 ; -0.955,-1.137 1.138,0.954 ; 2.362,-0.954 4.455,1.138 ; 2.545,-1.137 4.638,0.954 ; 5.862,-0.954 7.955,1.138 ; 6.045,-1.137 8.138,0.954 ; 9.362,-0.954 11.455,1.138 ; 9.545,-1.137 11.638,0.954 ; 12.862,-0.954 14.955,1.138 ; 13.045,-1.137 15.138,0.954 ; 16.362,-0.954 18.455,1.138 ; 16.545,-1.137 18.638,0.954 ; 19.862,-0.954 21.955,1.138 ; 20.045,-1.137 22.138,0.954 ; 23.362,-0.954 25.455,1.138 ; 23.545,-1.137 25.638,0.954 ; 26.862,-0.954 28.955,1.138 ; 27.045,-1.137 29.138,0.954 ; 30.362,-0.954 32.455,1.138 ; 30.545,-1.137 32.638,0.954 ; 33.25,-4.1 -1.75,-4.1 ; -1.75,-4.1 -1.75,3.1 33.25,3.1 33.25,-4.5 -1.35,-4.5 -1.75,-4.1
  text "'.Designator'" at 14.311,-2.798 h1

## TerminalBlock_Phoenix_PT-1,5-10-5.0-H_1x10_P5.00mm_Horizontal [mm]
pads (10):
  rrect10% 2.6x2.6 hole 1.3: 1(0,0)
  round 2.6 hole 1.3: 2(5,0) 3(10,0) 4(15,0) 5(20,0) 6(25,0) 7(30,0) 8(35,0) 9(40,0) 10(45,0)
F.SilkS:
  circle w0.254: c5,0 r2.36
  circle w0.254: c10,0 r2.36
  circle w0.254: c15,0 r2.36
  circle w0.254: c20,0 r2.36
  circle w0.254: c25,0 r2.36
  circle w0.254: c30,0 r2.36
  circle w0.254: c35,0 r2.36
  circle w0.254: c40,0 r2.36
  circle w0.254: c45,0 r2.36
  region: 0.44,-5.73 -0.44,-5.73 0,-5.12
  lines w0.254: -2.62,-4.6 47.62,-4.6 ; -2.62,-3.5 47.62,-3.5 ; -1.79,-1.502 -1.78,-1.491 ; -1.78,-1.55 cw(c0,0) -1.78,1.55 ; -1.55,-1.78 ccw(c0,0) 1.55,-1.78 ; -1.55,1.78 cw(c0,0) 1.55,1.78 ; -1.502,-1.79 -1.493,-1.78 ; -0.3,-5.12 -2.62,-5.12 -2.62,4.12 47.62,4.12 47.62,-5.12 0.3,-5.12 ; 1.78,-1.55 ccw(c0,0) 1.78,1.55 ; 3.21,-1.502 3.605,-1.106 ; 3.498,-1.79 3.893,-1.394 ; 6.106,1.394 6.502,1.79 ; 6.394,1.106 6.79,1.502 ; 8.21,-1.502 8.605,-1.106 ; 8.498,-1.79 8.893,-1.394 ; 11.106,1.394 11.502,1.79 ; 11.394,1.106 11.79,1.502 ; 13.21,-1.502 13.605,-1.106 ; 13.498,-1.79 13.893,-1.394 ; 16.106,1.394 16.502,1.79 ; 16.394,1.106 16.79,1.502 ; 18.21,-1.502 18.605,-1.106 ; 18.498,-1.79 18.893,-1.394 ; 21.106,1.394 21.502,1.79 ; 21.394,1.106 21.79,1.502 ; 23.21,-1.502 23.605,-1.106 ; 23.498,-1.79 23.893,-1.394 ; 26.106,1.394 26.502,1.79 ; 26.394,1.106 26.79,1.502 ; 28.21,-1.502 28.605,-1.106 ; 28.498,-1.79 28.893,-1.394 ; 31.106,1.394 31.502,1.79 ; 31.394,1.106 31.79,1.502 ; 33.21,-1.502 33.605,-1.106 ; 33.498,-1.79 33.893,-1.394 ; 36.106,1.394 36.502,1.79 ; 36.394,1.106 36.79,1.502 ; 38.21,-1.502 38.605,-1.106 ; 38.498,-1.79 38.893,-1.394 ; 41.106,1.394 41.502,1.79 ; 41.394,1.106 41.79,1.502 ; 43.21,-1.502 43.605,-1.106 ; 43.498,-1.79 43.893,-1.394 ; 46.106,1.394 46.502,1.79 ; 46.394,1.106 46.79,1.502
F.CrtYd:
  lines w0.254: -3,-5.5 -3,4.5 48,4.5 48,-5.5 -3,-5.5
F.Fab:
  circle w0.254: c0,0 r2
  circle w0.254: c5,0 r2
  circle w0.254: c10,0 r2
  circle w0.254: c15,0 r2
  circle w0.254: c20,0 r2
  circle w0.254: c25,0 r2
  circle w0.254: c30,0 r2
  circle w0.254: c35,0 r2
  circle w0.254: c40,0 r2
  circle w0.254: c45,0 r2
  lines w0.254: -2.5,-3.5 47.5,-3.5 ; -1.517,-1.272 1.273,1.517 ; -1.273,-1.517 1.517,1.273 ; 3.483,-1.272 6.273,1.517 ; 3.727,-1.517 6.517,1.273 ; 8.483,-1.272 11.273,1.517 ; 8.727,-1.517 11.517,1.273 ; 13.483,-1.272 16.273,1.517 ; 13.727,-1.517 16.517,1.273 ; 18.483,-1.272 21.273,1.517 ; 18.727,-1.517 21.517,1.273 ; 23.483,-1.272 26.273,1.517 ; 23.727,-1.517 26.517,1.273 ; 28.483,-1.272 31.273,1.517 ; 28.727,-1.517 31.517,1.273 ; 33.483,-1.272 36.273,1.517 ; 33.727,-1.517 36.517,1.273 ; 38.483,-1.272 41.273,1.517 ; 38.727,-1.517 41.517,1.273 ; 43.483,-1.272 46.273,1.517 ; 43.727,-1.517 46.517,1.273 ; 47.5,-4.6 -2.5,-4.6 ; -2.5,-4.6 -2.5,4 47.5,4 47.5,-5 -2.1,-5 -2.5,-4.6
  text "'.Designator'" at 21.061,-3.298 h1

## TerminalBlock_Phoenix_PT-1,5-11-3.5-H_1x11_P3.50mm_Horizontal [mm]
pads (11):
  rrect10% 2.4x2.4 hole 1.2: 1(0,0)
  round 2.4 hole 1.2: 2(3.5,0) 3(7,0) 4(10.5,0) 5(14,0) 6(17.5,0) 7(21,0) 8(24.5,0) 9(28,0) 10(31.5,0) 11(35,0)
F.SilkS:
  region: 0.44,-5.23 -0.44,-5.23 0,-4.62
  lines w0.254: -1.87,-4.1 36.87,-4.1 ; -1.87,-3 36.87,-3 ; -1.68,-0.798 cw(c0,0) -1.68,0.798 ; -0.798,-1.68 ccw(c0,0) 0.798,-1.68 ; -0.798,1.68 cw(c0,0) 0.798,1.68 ; -0.3,-4.62 -1.87,-4.62 -1.87,3.22 36.87,3.22 36.87,-4.62 0.3,-4.62 ; 2.089,-1.183 2.204,-1.069 ; 2.316,-1.41 2.431,-1.296 ; 4.569,1.296 4.684,1.411 ; 4.796,1.069 4.911,1.184 ; 5.589,-1.183 5.704,-1.069 ; 5.816,-1.41 5.931,-1.296 ; 8.069,1.296 8.184,1.411 ; 8.296,1.069 8.411,1.184 ; 9.089,-1.183 9.204,-1.069 ; 9.316,-1.41 9.431,-1.296 ; 11.569,1.296 11.684,1.411 ; 11.796,1.069 11.911,1.184 ; 12.589,-1.183 12.704,-1.069 ; 12.816,-1.41 12.931,-1.296 ; 15.069,1.296 15.184,1.411 ; 15.296,1.069 15.411,1.184 ; 16.089,-1.183 16.204,-1.069 ; 16.316,-1.41 16.431,-1.296 ; 18.569,1.296 18.684,1.411 ; 18.796,1.069 18.911,1.184 ; 19.589,-1.183 19.704,-1.069 ; 19.816,-1.41 19.931,-1.296 ; 22.069,1.296 22.184,1.411 ; 22.296,1.069 22.411,1.184 ; 23.089,-1.183 23.204,-1.069 ; 23.316,-1.41 23.431,-1.296 ; 25.569,1.296 25.684,1.411 ; 25.796,1.069 25.911,1.184 ; 26.589,-1.183 26.704,-1.069 ; 26.816,-1.41 26.931,-1.296 ; 29.069,1.296 29.184,1.411 ; 29.296,1.069 29.411,1.184 ; 30.089,-1.183 30.204,-1.069 ; 30.316,-1.41 30.431,-1.296 ; 32.569,1.296 32.684,1.411 ; 32.796,1.069 32.911,1.184 ; 33.159,-0.265 ccw(c35,0) 33.159,0.265 ; 33.589,-1.183 33.704,-1.069 ; 33.816,-1.41 33.931,-1.296 ; 36.069,1.296 36.184,1.411 ; 36.296,1.069 36.411,1.184
F.CrtYd:
  lines w0.254: -2.25,-5 -2.25,3.6 37.25,3.6 37.25,-5 -2.25,-5
F.Fab:
  circle w0.254: c0,0 r1.5
  circle w0.254: c3.5,0 r1.5
  circle w0.254: c7,0 r1.5
  circle w0.254: c10.5,0 r1.5
  circle w0.254: c14,0 r1.5
  circle w0.254: c17.5,0 r1.5
  circle w0.254: c21,0 r1.5
  circle w0.254: c24.5,0 r1.5
  circle w0.254: c28,0 r1.5
  circle w0.254: c31.5,0 r1.5
  circle w0.254: c35,0 r1.5
  lines w0.254: -1.75,-3 36.75,-3 ; -1.138,-0.954 0.955,1.138 ; -0.955,-1.137 1.138,0.954 ; 2.362,-0.954 4.455,1.138 ; 2.545,-1.137 4.638,0.954 ; 5.862,-0.954 7.955,1.138 ; 6.045,-1.137 8.138,0.954 ; 9.362,-0.954 11.455,1.138 ; 9.545,-1.137 11.638,0.954 ; 12.862,-0.954 14.955,1.138 ; 13.045,-1.137 15.138,0.954 ; 16.362,-0.954 18.455,1.138 ; 16.545,-1.137 18.638,0.954 ; 19.862,-0.954 21.955,1.138 ; 20.045,-1.137 22.138,0.954 ; 23.362,-0.954 25.455,1.138 ; 23.545,-1.137 25.638,0.954 ; 26.862,-0.954 28.955,1.138 ; 27.045,-1.137 29.138,0.954 ; 30.362,-0.954 32.455,1.138 ; 30.545,-1.137 32.638,0.954 ; 33.862,-0.954 35.955,1.138 ; 34.045,-1.137 36.138,0.954 ; 36.75,-4.1 -1.75,-4.1 ; -1.75,-4.1 -1.75,3.1 36.75,3.1 36.75,-4.5 -1.35,-4.5 -1.75,-4.1
  text "'.Designator'" at 16.061,-2.798 h1

## TerminalBlock_Phoenix_PT-1,5-11-5.0-H_1x11_P5.00mm_Horizontal [mm]
pads (11):
  rrect10% 2.6x2.6 hole 1.3: 1(0,0)
  round 2.6 hole 1.3: 2(5,0) 3(10,0) 4(15,0) 5(20,0) 6(25,0) 7(30,0) 8(35,0) 9(40,0) 10(45,0) 11(50,0)
F.SilkS:
  circle w0.254: c5,0 r2.36
  circle w0.254: c10,0 r2.36
  circle w0.254: c15,0 r2.36
  circle w0.254: c20,0 r2.36
  circle w0.254: c25,0 r2.36
  circle w0.254: c30,0 r2.36
  circle w0.254: c35,0 r2.36
  circle w0.254: c40,0 r2.36
  circle w0.254: c45,0 r2.36
  circle w0.254: c50,0 r2.36
  region: 0.44,-5.73 -0.44,-5.73 0,-5.12
  lines w0.254: -2.62,-4.6 52.62,-4.6 ; -2.62,-3.5 52.62,-3.5 ; -1.79,-1.502 -1.78,-1.491 ; -1.78,-1.55 cw(c0,0) -1.78,1.55 ; -1.55,-1.78 ccw(c0,0) 1.55,-1.78 ; -1.55,1.78 cw(c0,0) 1.55,1.78 ; -1.502,-1.79 -1.493,-1.78 ; -0.3,-5.12 -2.62,-5.12 -2.62,4.12 52.62,4.12 52.62,-5.12 0.3,-5.12 ; 1.78,-1.55 ccw(c0,0) 1.78,1.55 ; 3.21,-1.502 3.605,-1.106 ; 3.498,-1.79 3.893,-1.394 ; 6.106,1.394 6.502,1.79 ; 6.394,1.106 6.79,1.502 ; 8.21,-1.502 8.605,-1.106 ; 8.498,-1.79 8.893,-1.394 ; 11.106,1.394 11.502,1.79 ; 11.394,1.106 11.79,1.502 ; 13.21,-1.502 13.605,-1.106 ; 13.498,-1.79 13.893,-1.394 ; 16.106,1.394 16.502,1.79 ; 16.394,1.106 16.79,1.502 ; 18.21,-1.502 18.605,-1.106 ; 18.498,-1.79 18.893,-1.394 ; 21.106,1.394 21.502,1.79 ; 21.394,1.106 21.79,1.502 ; 23.21,-1.502 23.605,-1.106 ; 23.498,-1.79 23.893,-1.394 ; 26.106,1.394 26.502,1.79 ; 26.394,1.106 26.79,1.502 ; 28.21,-1.502 28.605,-1.106 ; 28.498,-1.79 28.893,-1.394 ; 31.106,1.394 31.502,1.79 ; 31.394,1.106 31.79,1.502 ; 33.21,-1.502 33.605,-1.106 ; 33.498,-1.79 33.893,-1.394 ; 36.106,1.394 36.502,1.79 ; 36.394,1.106 36.79,1.502 ; 38.21,-1.502 38.605,-1.106 ; 38.498,-1.79 38.893,-1.394 ; 41.106,1.394 41.502,1.79 ; 41.394,1.106 41.79,1.502 ; 43.21,-1.502 43.605,-1.106 ; 43.498,-1.79 43.893,-1.394 ; 46.106,1.394 46.502,1.79 ; 46.394,1.106 46.79,1.502 ; 48.21,-1.502 48.605,-1.106 ; 48.498,-1.79 48.893,-1.394 ; 51.106,1.394 51.502,1.79 ; 51.394,1.106 51.79,1.502
F.CrtYd:
  lines w0.254: -3,-5.5 -3,4.5 53,4.5 53,-5.5 -3,-5.5
F.Fab:
  circle w0.254: c0,0 r2
  circle w0.254: c5,0 r2
  circle w0.254: c10,0 r2
  circle w0.254: c15,0 r2
  circle w0.254: c20,0 r2
  circle w0.254: c25,0 r2
  circle w0.254: c30,0 r2
  circle w0.254: c35,0 r2
  circle w0.254: c40,0 r2
  circle w0.254: c45,0 r2
  circle w0.254: c50,0 r2
  lines w0.254: -2.5,-3.5 52.5,-3.5 ; -1.517,-1.272 1.273,1.517 ; -1.273,-1.517 1.517,1.273 ; 3.483,-1.272 6.273,1.517 ; 3.727,-1.517 6.517,1.273 ; 8.483,-1.272 11.273,1.517 ; 8.727,-1.517 11.517,1.273 ; 13.483,-1.272 16.273,1.517 ; 13.727,-1.517 16.517,1.273 ; 18.483,-1.272 21.273,1.517 ; 18.727,-1.517 21.517,1.273 ; 23.483,-1.272 26.273,1.517 ; 23.727,-1.517 26.517,1.273 ; 28.483,-1.272 31.273,1.517 ; 28.727,-1.517 31.517,1.273 ; 33.483,-1.272 36.273,1.517 ; 33.727,-1.517 36.517,1.273 ; 38.483,-1.272 41.273,1.517 ; 38.727,-1.517 41.517,1.273 ; 43.483,-1.272 46.273,1.517 ; 43.727,-1.517 46.517,1.273 ; 48.483,-1.272 51.273,1.517 ; 48.727,-1.517 51.517,1.273 ; 52.5,-4.6 -2.5,-4.6 ; -2.5,-4.6 -2.5,4 52.5,4 52.5,-5 -2.1,-5 -2.5,-4.6
  text "'.Designator'" at 23.561,-3.298 h1

## TerminalBlock_Phoenix_PT-1,5-12-3.5-H_1x12_P3.50mm_Horizontal [mm]
pads (12):
  rrect10% 2.4x2.4 hole 1.2: 1(0,0)
  round 2.4 hole 1.2: 2(3.5,0) 3(7,0) 4(10.5,0) 5(14,0) 6(17.5,0) 7(21,0) 8(24.5,0) 9(28,0) 10(31.5,0) 11(35,0) 12(38.5,0)
F.SilkS:
  region: 0.44,-5.23 -0.44,-5.23 0,-4.62
  lines w0.254: -1.87,-4.1 40.37,-4.1 ; -1.87,-3 40.37,-3 ; -1.68,-0.798 cw(c0,0) -1.68,0.798 ; -0.798,-1.68 ccw(c0,0) 0.798,-1.68 ; -0.798,1.68 cw(c0,0) 0.798,1.68 ; -0.3,-4.62 -1.87,-4.62 -1.87,3.22 40.37,3.22 40.37,-4.62 0.3,-4.62 ; 2.089,-1.183 2.204,-1.069 ; 2.316,-1.41 2.431,-1.296 ; 4.569,1.296 4.684,1.411 ; 4.796,1.069 4.911,1.184 ; 5.589,-1.183 5.704,-1.069 ; 5.816,-1.41 5.931,-1.296 ; 8.069,1.296 8.184,1.411 ; 8.296,1.069 8.411,1.184 ; 9.089,-1.183 9.204,-1.069 ; 9.316,-1.41 9.431,-1.296 ; 11.569,1.296 11.684,1.411 ; 11.796,1.069 11.911,1.184 ; 12.589,-1.183 12.704,-1.069 ; 12.816,-1.41 12.931,-1.296 ; 15.069,1.296 15.184,1.411 ; 15.296,1.069 15.411,1.184 ; 16.089,-1.183 16.204,-1.069 ; 16.316,-1.41 16.431,-1.296 ; 18.569,1.296 18.684,1.411 ; 18.796,1.069 18.911,1.184 ; 19.589,-1.183 19.704,-1.069 ; 19.816,-1.41 19.931,-1.296 ; 22.069,1.296 22.184,1.411 ; 22.296,1.069 22.411,1.184 ; 23.089,-1.183 23.204,-1.069 ; 23.316,-1.41 23.431,-1.296 ; 25.569,1.296 25.684,1.411 ; 25.796,1.069 25.911,1.184 ; 26.589,-1.183 26.704,-1.069 ; 26.816,-1.41 26.931,-1.296 ; 29.069,1.296 29.184,1.411 ; 29.296,1.069 29.411,1.184 ; 30.089,-1.183 30.204,-1.069 ; 30.316,-1.41 30.431,-1.296 ; 32.569,1.296 32.684,1.411 ; 32.796,1.069 32.911,1.184 ; 33.589,-1.183 33.704,-1.069 ; 33.816,-1.41 33.931,-1.296 ; 36.069,1.296 36.184,1.411 ; 36.296,1.069 36.411,1.184 ; 36.659,-0.265 ccw(c38.5,0) 36.659,0.265 ; 37.089,-1.183 37.204,-1.069 ; 37.316,-1.41 37.431,-1.296 ; 39.569,1.296 39.684,1.411 ; 39.796,1.069 39.911,1.184
F.CrtYd:
  lines w0.254: -2.25,-5 -2.25,3.6 40.75,3.6 40.75,-5 -2.25,-5
F.Fab:
  circle w0.254: c0,0 r1.5
  circle w0.254: c3.5,0 r1.5
  circle w0.254: c7,0 r1.5
  circle w0.254: c10.5,0 r1.5
  circle w0.254: c14,0 r1.5
  circle w0.254: c17.5,0 r1.5
  circle w0.254: c21,0 r1.5
  circle w0.254: c24.5,0 r1.5
  circle w0.254: c28,0 r1.5
  circle w0.254: c31.5,0 r1.5
  circle w0.254: c35,0 r1.5
  circle w0.254: c38.5,0 r1.5
  lines w0.254: -1.75,-3 40.25,-3 ; -1.138,-0.954 0.955,1.138 ; -0.955,-1.137 1.138,0.954 ; 2.362,-0.954 4.455,1.138 ; 2.545,-1.137 4.638,0.954 ; 5.862,-0.954 7.955,1.138 ; 6.045,-1.137 8.138,0.954 ; 9.362,-0.954 11.455,1.138 ; 9.545,-1.137 11.638,0.954 ; 12.862,-0.954 14.955,1.138 ; 13.045,-1.137 15.138,0.954 ; 16.362,-0.954 18.455,1.138 ; 16.545,-1.137 18.638,0.954 ; 19.862,-0.954 21.955,1.138 ; 20.045,-1.137 22.138,0.954 ; 23.362,-0.954 25.455,1.138 ; 23.545,-1.137 25.638,0.954 ; 26.862,-0.954 28.955,1.138 ; 27.045,-1.137 29.138,0.954 ; 30.362,-0.954 32.455,1.138 ; 30.545,-1.137 32.638,0.954 ; 33.862,-0.954 35.955,1.138 ; 34.045,-1.137 36.138,0.954 ; 37.362,-0.954 39.455,1.138 ; 37.545,-1.137 39.638,0.954 ; 40.25,-4.1 -1.75,-4.1 ; -1.75,-4.1 -1.75,3.1 40.25,3.1 40.25,-4.5 -1.35,-4.5 -1.75,-4.1
  text "'.Designator'" at 17.811,-2.798 h1